# Altium footprint library BioRocketFootprints.pcblib: 40 footprints (part 3 of 3)
Each footprint in its own frame and in the unit in brackets; x right, y up, seen from the top. Pads: shape width x height; smd on the part's side, far side on the other; paste and mask are expansions set on the pad; w line width, h text height; cw(c..) or ccw(c..) is an arc to the next point about the centre after c.
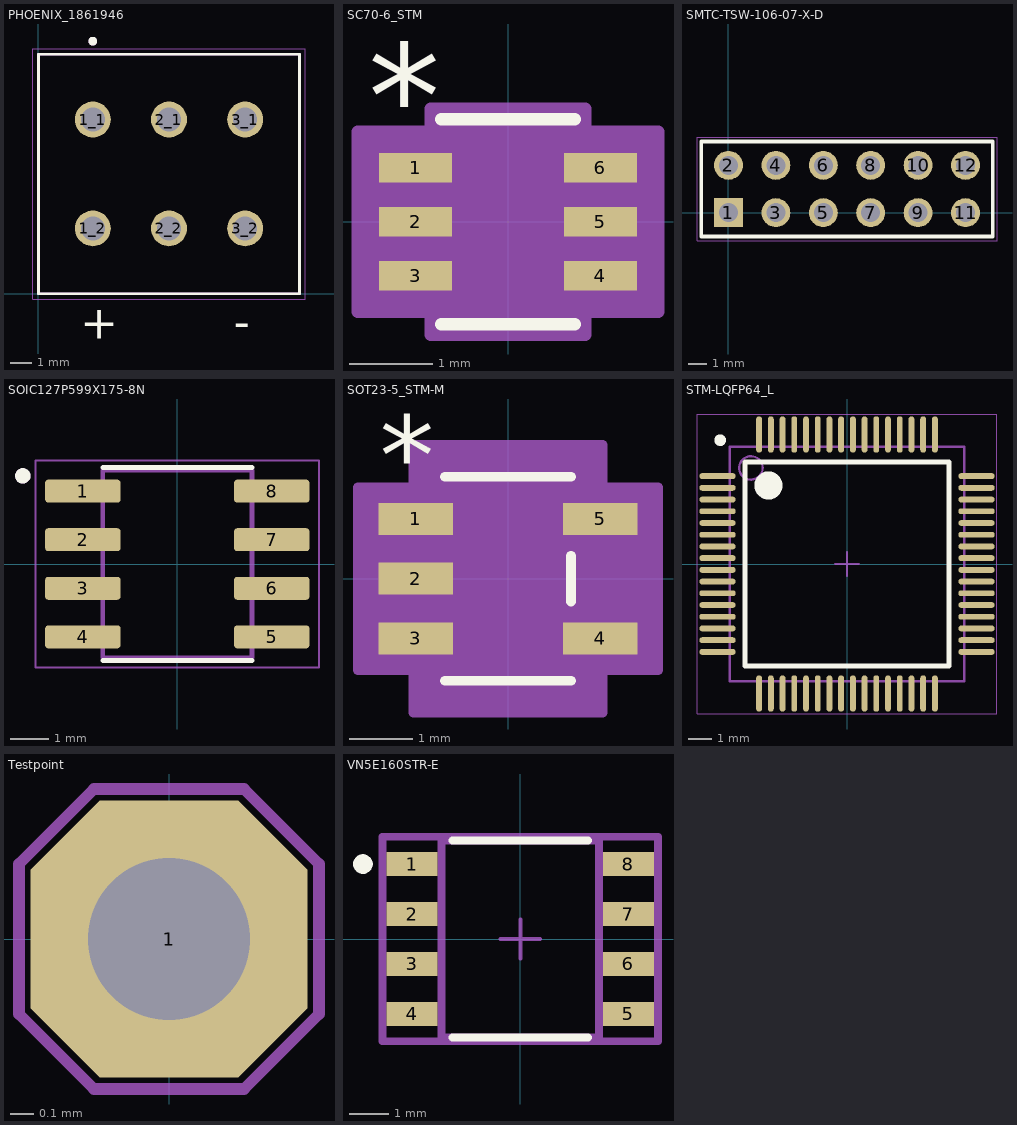
[diagram p2: the footprints below, top view; thin cyan lines are the x and y axes]

## PHOENIX_1861946 [mm]
pads (6):
  round 1.65 hole 1.1: 1_1(2.5,8) 1_2(2.5,3) 2_1(6,8) 2_2(6,3) 3_1(9.5,8) 3_2(9.5,3)
Top Overlay:
  circle w0.2: c2.5,11.6 r0.1
  lines w0.127: 0,0 0,11 12,11 12,0 0,0
  text "+" at 1.93,-2.083 h1.52
  text "-" at 8.966,-2.032 h1.52
Top 3D Body:
  circle w0.2: c2.5,11.6 r0.1
  lines w0.127: 0,0 0,11 12,11 12,0 0,0
Top Courtyard (Mech15):
  lines w0.05: -0.25,-0.25 -0.25,11.25 12.25,11.25 12.25,-0.25 -0.25,-0.25
3D body "1861946.stp": height 8, standoff -2.6, extent 0,0 12,11

## SC70-6_STM [mil]
pads (6):
  rect 34.5x14 smd paste+0 mask+0: 1(-43.75,25.59) 2(-43.75,0) 3(-43.75,-25.59) 4(43.75,-25.59) 5(43.75,0) 6(43.75,25.59)
Top Overlay:
  lines w6: -31.5,-48.5 31.5,-48.5 ; -31.5,48.5 31.5,48.5
  text "*" at -66.25,34.59 h50
Top 3D Body:
  lines w0: -12,43.5 ccw(c0,43.5) 12,43.5
  lines w1: -47,-31.59 -26.5,-31.59 -26.5,-19.59 -47,-19.59 -47,-31.59 ; -47,-6 -26.5,-6 -26.5,6 -47,6 -47,-6 ; -47,19.59 -26.5,19.59 -26.5,31.59 -47,31.59 -47,19.59 ; -26.5,-43.5 -26.5,43.5 26.5,43.5 26.5,-43.5 -26.5,-43.5 ; 26.5,-31.59 47,-31.59 47,-19.59 26.5,-19.59 26.5,-31.59 ; 26.5,-6 47,-6 47,6 26.5,6 26.5,-6 ; 26.5,19.59 47,19.59 47,31.59 26.5,31.59 26.5,19.59
  text "*" at -24,-9.5 h50
Top Courtyard (Mech15):
  region: -36.5,-42.59 -71,-42.59 -71,42.59 -36.5,42.59 -36.5,53.5 36.5,53.5 36.5,42.59 71,42.59 71,-42.59 36.5,-42.59 36.5,-53.5 -36.5,-53.5
  lines w6: -71,-42.59 -36.5,-42.59 -36.5,-53.5 36.5,-53.5 36.5,-42.59 71,-42.59 71,42.59 36.5,42.59 36.5,53.5 -36.5,53.5 -36.5,42.59 -71,42.59 -71,-42.59
3D body "SC70-6_STM.step": height 41.1, standoff 0, extent -47.01,-43.5 47.01,43.5

## SMTC-TSW-106-07-X-D [mm] ".025 SQ Post Terminal Strip Assembly, 2x6 Pins, Vertical, 2.54mm Pitch, Male"
height 8.58
pads (12):
  rect 1.55x1.55 hole 1.02: 1(0,0)
  round 1.55 hole 1.02: 2(0,2.54) 3(2.54,0) 4(2.54,2.54) 5(5.08,0) 6(5.08,2.54) 7(7.62,0) 8(7.62,2.54) 9(10.16,0) 10(10.16,2.54) 11(12.7,0) 12(12.7,2.54)
Top Overlay:
  lines w0.2: -1.46,-1.27 14.16,-1.27 14.16,3.81 -1.46,3.81 -1.46,-1.27
Top 3D Body:
  lines w0.1: -1.46,-1.27 14.16,-1.27 14.16,3.81 -1.46,3.81 -1.46,-1.27
Top Courtyard (Mech15):
  lines w0.05: -1.685,-1.495 14.385,-1.495 14.385,4.035 -1.685,4.035 -1.685,-1.495
3D body "TSW-106-07-X-D.step": height 8.38, standoff -2.54, extent -1.27,-1.27 13.97,3.81

## SOIC127P599X175-8N [mm]
pads (8):
  rrect25% 1.97x0.6 smd: 1(-2.47,1.905) 2(-2.47,0.635) 3(-2.47,-0.635) 4(-2.47,-1.905) 5(2.47,-1.905) 6(2.47,-0.635) 7(2.47,0.635) 8(2.47,1.905)
Top Overlay:
  circle w0.2: c-4.04,2.305 r0.1
  lines w0.127: -1.95,-2.525 1.95,-2.525 ; -1.95,2.525 1.95,2.525
Top 3D Body:
  circle w0.2: c-4.04,2.305 r0.1
  lines w0.127: -1.95,-2.452 1.95,-2.452 1.95,2.452 -1.95,2.452 -1.95,-2.452
Top Courtyard (Mech15):
  lines w0.05: -3.705,-2.702 3.705,-2.702 3.705,2.702 -3.705,2.702 -3.705,-2.702
3D body "step_temp.STEP": height 1.75, standoff 0, extent -3,-2.45 3,2.45

## SOT23-5_STM-M [mil]
pads (5):
  rect 46.5x20 smd paste+0 mask+0: 1(-57.75,37.4) 2(-57.75,0) 3(-57.75,-37.4) 4(57.75,-37.4) 5(57.75,37.4)
Top Overlay:
  lines w6: -39.5,-64 39.5,-64 ; -39.5,64 39.5,64 ; 39.5,-14.3 39.5,14.3
  text "*" at -80.25,52.4 h50
Top 3D Body:
  lines w0: -12,59 ccw(c0,59) 12,59
  lines w1: -59,-47.4 -59,-27.4 -34.5,-27.4 -34.5,-47.4 -59,-47.4 ; -59,-10 -59,10 -34.5,10 -34.5,-10 -59,-10 ; -59,27.4 -59,47.4 -34.5,47.4 -34.5,27.4 -59,27.4 ; -34.5,-59 34.5,-59 34.5,59 -34.5,59 -34.5,-59 ; 34.5,-47.4 34.5,-27.4 59,-27.4 59,-47.4 34.5,-47.4 ; 34.5,27.4 34.5,47.4 59,47.4 59,27.4 34.5,27.4
  text "*" at -37,9.4 h50
Top Courtyard (Mech15):
  region: 59.5,-84 -59.5,-84 -59.5,-57.4 -94,-57.4 -94,57.4 -59.5,57.4 -59.5,84 59.5,84 59.5,57.4 94,57.4 94,-57.4 59.5,-57.4
  lines w6: -94,-57.4 -59.5,-57.4 -59.5,-84 59.5,-84 59.5,-57.4 94,-57.4 94,57.4 59.5,57.4 59.5,84 -59.5,84 -59.5,57.4 -94,57.4 -94,-57.4
3D body "SOT23-5_STM.step": height 57.09, standoff 0, extent -59.02,-59.02 59.02,59.02

## STM-LQFP64_L [mm] "Thin QFP, 64-Leads, Body 10x10mm, Pitch 0.5mm, IPC High Density"
height 1.6
pads (64):
  oval 1.55x0.25 smd: 1(-5.525,3.75) 2(-5.525,3.25) 3(-5.525,2.75) 4(-5.525,2.25) 5(-5.525,1.75) 6(-5.525,1.25) 7(-5.525,0.75) 8(-5.525,0.25) 9(-5.525,-0.25) 10(-5.525,-0.75) 11(-5.525,-1.25) 12(-5.525,-1.75) 13(-5.525,-2.25) 14(-5.525,-2.75) 15(-5.525,-3.25) 16(-5.525,-3.75) 33(5.525,-3.75) 34(5.525,-3.25) 35(5.525,-2.75) 36(5.525,-2.25) 37(5.525,-1.75) 38(5.525,-1.25) 39(5.525,-0.75) 40(5.525,-0.25) 41(5.525,0.25) 42(5.525,0.75) 43(5.525,1.25) 44(5.525,1.75) 45(5.525,2.25) 46(5.525,2.75) 47(5.525,3.25) 48(5.525,3.75)
  oval 0.25x1.55 smd: 17(-3.75,-5.525) 18(-3.25,-5.525) 19(-2.75,-5.525) 20(-2.25,-5.525) 21(-1.75,-5.525) 22(-1.25,-5.525) 23(-0.75,-5.525) 24(-0.25,-5.525) 25(0.25,-5.525) 26(0.75,-5.525) 27(1.25,-5.525) 28(1.75,-5.525) 29(2.25,-5.525) 30(2.75,-5.525) 31(3.25,-5.525) 32(3.75,-5.525) 49(3.75,5.525) 50(3.25,5.525) 51(2.75,5.525) 52(2.25,5.525) 53(1.75,5.525) 54(1.25,5.525) 55(0.75,5.525) 56(0.25,5.525) 57(-0.25,5.525) 58(-0.75,5.525) 59(-1.25,5.525) 60(-1.75,5.525) 61(-2.25,5.525) 62(-2.75,5.525) 63(-3.25,5.525) 64(-3.75,5.525)
Top Overlay:
  circle w0.6: c-3.35,3.35 r0.3
  circle w0.25: c-5.41,5.283 r0.125
  lines w0.2: -4.35,-4.35 4.35,-4.35 4.35,4.35 -4.35,4.35 -4.35,-4.35
Top 3D Body:
  circle w0.1: c-4.1,4.1 r0.5
  lines w0.1: -5,-5 5,-5 5,5 -5,5 -5,-5
Top Courtyard (Mech15):
  lines w0.05: -6.4,-6.4 6.4,-6.4 6.4,6.4 -6.4,6.4 -6.4,-6.4
  lines w0.1: -0.5,0 0.5,0 ; 0,-0.5 0,0.5
3D body: height 1.6, standoff 0.05, extent -5,-5 5,5

## Testpoint [mm] "0.7MMD, 1.2MMW, 1.2MML"
pads (1):
  oct 1.2x1.2 hole 0.7 mask+0.05: 1(0,0)
Top Component Outline:
  lines w0.05: -0.65,-0.325 -0.325,-0.65 0.325,-0.65 0.65,-0.325 0.65,0.325 0.325,0.65 -0.325,0.65 -0.65,0.325 -0.65,-0.325

## VN5E160STR-E [mm]
pads (8):
  rect 1.3x0.6 smd paste+0 mask+0: 1(-2.75,1.905) 2(-2.75,0.635) 3(-2.75,-0.635) 4(-2.75,-1.905) 5(2.75,-1.905) 6(2.75,-0.635) 7(2.75,0.635) 8(2.75,1.905)
Top Overlay:
  circle w0.25: c-4,1.905 r0.125
  lines w0.2: -1.725,-2.5 1.725,-2.5 ; -1.725,2.5 1.725,2.5
Top Assembly:
  lines w0.2: -3.5,-2.6 3.5,-2.6 3.5,2.6 -3.5,2.6 -3.5,-2.6
  text ".Designator" at 0,0.188 h1
Top Courtyard:
  lines w0.2: -3.5,-2.6 3.5,-2.6 3.5,2.6 -3.5,2.6 -3.5,-2.6
Top Component Center:
  lines w0.1: -0.5,0 0.5,0 ; 0,-0.5 0,0.5
Top 3D Body:
  lines w0.2: -2,-2.5 2,-2.5 2,2.5 -2,2.5 -2,-2.5
3D body "IC_STMicroelectronics_VN5160S-E_eec.STEP": height 0.25, standoff 0, extent -3.5,-2.6 3.5,2.6